# Altium footprint library Fedor's_pcb.PcbLib: 174 footprints (part 6 of 14)
Each footprint in its own frame and in the unit in brackets; x right, y up, seen from the top. Pads: shape width x height; smd on the part's side, far side on the other; paste and mask are expansions set on the pad; w line width, h text height; cw(c..) or ccw(c..) is an arc to the next point about the centre after c.
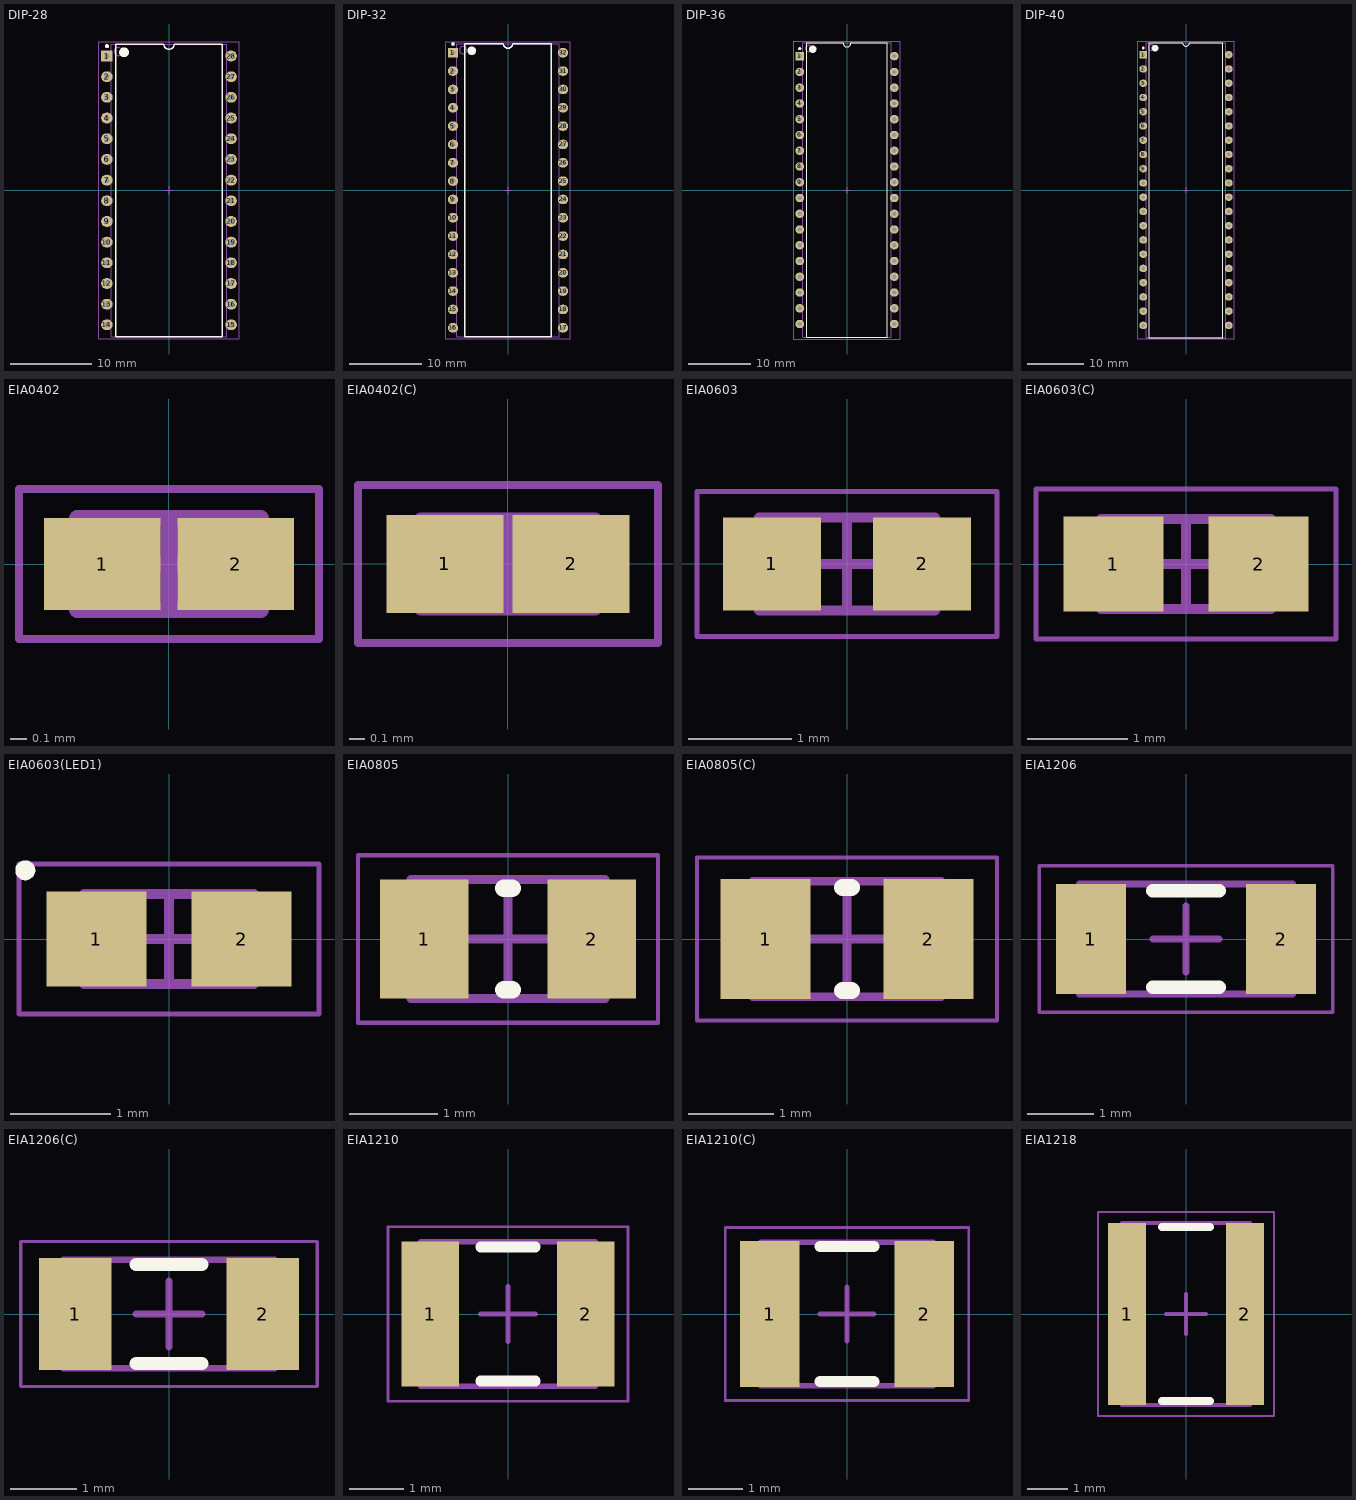
[diagram p5: the footprints below, top view; thin cyan lines are the x and y axes]

## DIP-28 [mm] "28-pin plastic DIP (DIP-28P-M02)"
height 4.96
pads (28):
  rect 1.42x1.32 hole 0.66: 1(-7.62,16.51)
  oval 1.42x1.32 hole 0.66: 2(-7.62,13.97) 3(-7.62,11.43) 4(-7.62,8.89) 5(-7.62,6.35) 6(-7.62,3.81) 7(-7.62,1.27) 8(-7.62,-1.27) 9(-7.62,-3.81) 10(-7.62,-6.35) 11(-7.62,-8.89) 12(-7.62,-11.43) 13(-7.62,-13.97) 14(-7.62,-16.51) 15(7.62,-16.51) 16(7.62,-13.97) 17(7.62,-11.43) 18(7.62,-8.89) 19(7.62,-6.35) 20(7.62,-3.81) 21(7.62,-1.27) 22(7.62,1.27) 23(7.62,3.81) 24(7.62,6.35) 25(7.62,8.89) 26(7.62,11.43) 27(7.62,13.97) 28(7.62,16.51)
Top Overlay:
  circle w0.25: c-7.62,17.72 r0.125
  circle w0.6: c-5.525,16.965 r0.3
  lines w0.2: -6.525,-17.965 -6.525,17.965 -0.635,17.965 ccw(c0,17.965) 0.635,17.965 6.525,17.965 6.525,-17.965 -6.525,-17.965
Mechanical 13:
  circle w0.1: c-6.22,17.065 r0.5
  lines w0.1: -7.12,-17.965 -7.12,17.965 7.12,17.965 7.12,-17.965 -7.12,-17.965
Mechanical 15:
  lines w0.05: -8.6,-18.25 -8.6,18.25 8.6,18.25 8.6,-18.25 -8.6,-18.25
  lines w0.1: -0.5,0 0.5,0 ; 0,-0.5 0,0.5
3D body: height 2.64, standoff 0, extent -7.719,16.13 -7.521,16.89
3D body: height 2.84, standoff 2.64, extent -7.719,16.13 -7.12,16.89
3D body: height 0, standoff -1.6, extent -7.719,16.246 -7.521,16.774
3D body: height 2.64, standoff 0, extent -7.719,13.59 -7.521,14.35
3D body: height 2.84, standoff 2.64, extent -7.719,13.59 -7.12,14.35
3D body: height 0, standoff -1.6, extent -7.719,13.706 -7.521,14.234
3D body: height 2.64, standoff 0, extent -7.719,11.05 -7.521,11.81
3D body: height 2.84, standoff 2.64, extent -7.719,11.05 -7.12,11.81
3D body: height 0, standoff -1.6, extent -7.719,11.166 -7.521,11.694
3D body: height 2.64, standoff 0, extent -7.719,8.51 -7.521,9.27
3D body: height 2.84, standoff 2.64, extent -7.719,8.51 -7.12,9.27
3D body: height 0, standoff -1.6, extent -7.719,8.626 -7.521,9.154
3D body: height 2.64, standoff 0, extent -7.719,5.97 -7.521,6.73
3D body: height 2.84, standoff 2.64, extent -7.719,5.97 -7.12,6.73
3D body: height 0, standoff -1.6, extent -7.719,6.086 -7.521,6.614
3D body: height 2.64, standoff 0, extent -7.719,3.43 -7.521,4.19
3D body: height 2.84, standoff 2.64, extent -7.719,3.43 -7.12,4.19
3D body: height 0, standoff -1.6, extent -7.719,3.546 -7.521,4.074
3D body: height 2.64, standoff 0, extent -7.719,0.89 -7.521,1.65
3D body: height 2.84, standoff 2.64, extent -7.719,0.89 -7.12,1.65
3D body: height 0, standoff -1.6, extent -7.719,1.006 -7.521,1.534
3D body: height 2.64, standoff 0, extent -7.719,-1.65 -7.521,-0.89
3D body: height 2.84, standoff 2.64, extent -7.719,-1.65 -7.12,-0.89
3D body: height 0, standoff -1.6, extent -7.719,-1.534 -7.521,-1.006
3D body: height 2.64, standoff 0, extent -7.719,-4.19 -7.521,-3.43
3D body: height 2.84, standoff 2.64, extent -7.719,-4.19 -7.12,-3.43
3D body: height 0, standoff -1.6, extent -7.719,-4.074 -7.521,-3.546
3D body: height 2.64, standoff 0, extent -7.719,-6.73 -7.521,-5.97
3D body: height 2.84, standoff 2.64, extent -7.719,-6.73 -7.12,-5.97
3D body: height 0, standoff -1.6, extent -7.719,-6.614 -7.521,-6.086
3D body: height 2.64, standoff 0, extent -7.719,-9.27 -7.521,-8.51
3D body: height 2.84, standoff 2.64, extent -7.719,-9.27 -7.12,-8.51
3D body: height 0, standoff -1.6, extent -7.719,-9.154 -7.521,-8.626
3D body: height 2.64, standoff 0, extent -7.719,-11.81 -7.521,-11.05
3D body: height 2.84, standoff 2.64, extent -7.719,-11.81 -7.12,-11.05
3D body: height 0, standoff -1.6, extent -7.719,-11.694 -7.521,-11.166
3D body: height 2.64, standoff 0, extent -7.719,-14.35 -7.521,-13.59
3D body: height 2.84, standoff 2.64, extent -7.719,-14.35 -7.12,-13.59
3D body: height 0, standoff -1.6, extent -7.719,-14.234 -7.521,-13.706
3D body: height 2.64, standoff 0, extent -7.719,-16.89 -7.521,-16.13
3D body: height 2.84, standoff 2.64, extent -7.719,-16.89 -7.12,-16.13
3D body: height 0, standoff -1.6, extent -7.719,-16.774 -7.521,-16.246
3D body: height 2.64, standoff 0, extent 7.521,-16.89 7.719,-16.13
3D body: height 2.84, standoff 2.64, extent 7.12,-16.89 7.719,-16.13
3D body: height 0, standoff -1.6, extent 7.521,-16.774 7.719,-16.246
3D body: height 2.64, standoff 0, extent 7.521,-14.35 7.719,-13.59
3D body: height 2.84, standoff 2.64, extent 7.12,-14.35 7.719,-13.59
3D body: height 0, standoff -1.6, extent 7.521,-14.234 7.719,-13.706
3D body: height 2.64, standoff 0, extent 7.521,-11.81 7.719,-11.05
3D body: height 2.84, standoff 2.64, extent 7.12,-11.81 7.719,-11.05
3D body: height 0, standoff -1.6, extent 7.521,-11.694 7.719,-11.166
3D body: height 2.64, standoff 0, extent 7.521,-9.27 7.719,-8.51
3D body: height 2.84, standoff 2.64, extent 7.12,-9.27 7.719,-8.51
3D body: height 0, standoff -1.6, extent 7.521,-9.154 7.719,-8.626
3D body: height 2.64, standoff 0, extent 7.521,-6.73 7.719,-5.97
3D body: height 2.84, standoff 2.64, extent 7.12,-6.73 7.719,-5.97
3D body: height 0, standoff -1.6, extent 7.521,-6.614 7.719,-6.086
3D body: height 2.64, standoff 0, extent 7.521,-4.19 7.719,-3.43
3D body: height 2.84, standoff 2.64, extent 7.12,-4.19 7.719,-3.43
3D body: height 0, standoff -1.6, extent 7.521,-4.074 7.719,-3.546
3D body: height 2.64, standoff 0, extent 7.521,-1.65 7.719,-0.89
3D body: height 2.84, standoff 2.64, extent 7.12,-1.65 7.719,-0.89
3D body: height 0, standoff -1.6, extent 7.521,-1.534 7.719,-1.006
3D body: height 2.64, standoff 0, extent 7.521,0.89 7.719,1.65
3D body: height 2.84, standoff 2.64, extent 7.12,0.89 7.719,1.65
3D body: height 0, standoff -1.6, extent 7.521,1.006 7.719,1.534
3D body: height 2.64, standoff 0, extent 7.521,3.43 7.719,4.19
3D body: height 2.84, standoff 2.64, extent 7.12,3.43 7.719,4.19
3D body: height 0, standoff -1.6, extent 7.521,3.546 7.719,4.074
3D body: height 2.64, standoff 0, extent 7.521,5.97 7.719,6.73
3D body: height 2.84, standoff 2.64, extent 7.12,5.97 7.719,6.73
3D body: height 0, standoff -1.6, extent 7.521,6.086 7.719,6.614
3D body: height 2.64, standoff 0, extent 7.521,8.51 7.719,9.27
3D body: height 2.84, standoff 2.64, extent 7.12,8.51 7.719,9.27
3D body: height 0, standoff -1.6, extent 7.521,8.626 7.719,9.154
3D body: height 2.64, standoff 0, extent 7.521,11.05 7.719,11.81
3D body: height 2.84, standoff 2.64, extent 7.12,11.05 7.719,11.81
3D body: height 0, standoff -1.6, extent 7.521,11.166 7.719,11.694
3D body: height 2.64, standoff 0, extent 7.521,13.59 7.719,14.35
3D body: height 2.84, standoff 2.64, extent 7.12,13.59 7.719,14.35
3D body: height 0, standoff -1.6, extent 7.521,13.706 7.719,14.234
3D body: height 2.64, standoff 0, extent 7.521,16.13 7.719,16.89
3D body: height 2.84, standoff 2.64, extent 7.12,16.13 7.719,16.89
3D body: height 0, standoff -1.6, extent 7.521,16.246 7.719,16.774
3D body: height 4.96, standoff 0.51, extent -7.12,-17.965 7.12,17.965

## DIP-32 [mm] "32-pin plastic DIP (DIP-32P-M02)"
height 5
pads (32):
  rect 1.42x1.32 hole 0.66: 1(-7.62,19.05)
  oval 1.42x1.32 hole 0.66: 2(-7.62,16.51) 3(-7.62,13.97) 4(-7.62,11.43) 5(-7.62,8.89) 6(-7.62,6.35) 7(-7.62,3.81) 8(-7.62,1.27) 9(-7.62,-1.27) 10(-7.62,-3.81) 11(-7.62,-6.35) 12(-7.62,-8.89) 13(-7.62,-11.43) 14(-7.62,-13.97) 15(-7.62,-16.51) 16(-7.62,-19.05) 17(7.62,-19.05) 18(7.62,-16.51) 19(7.62,-13.97) 20(7.62,-11.43) 21(7.62,-8.89) 22(7.62,-6.35) 23(7.62,-3.81) 24(7.62,-1.27) 25(7.62,1.27) 26(7.62,3.81) 27(7.62,6.35) 28(7.62,8.89) 29(7.62,11.43) 30(7.62,13.97) 31(7.62,16.51) 32(7.62,19.05)
Top Overlay:
  circle w0.25: c-7.62,20.26 r0.125
  circle w0.6: c-5.025,19.32 r0.3
  lines w0.2: -6.025,-20.32 -6.025,20.32 -0.635,20.32 ccw(c0,20.32) 0.635,20.32 6.025,20.32 6.025,-20.32 -6.025,-20.32
Mechanical 13:
  circle w0.1: c-6.22,19.42 r0.5
  lines w0.1: -7.12,-20.32 -7.12,20.32 7.12,20.32 7.12,-20.32 -7.12,-20.32
Mechanical 15:
  lines w0.05: -8.6,-20.6 -8.6,20.6 8.6,20.6 8.6,-20.6 -8.6,-20.6
  lines w0.1: -0.5,0 0.5,0 ; 0,-0.5 0,0.5
3D body: height 2.66, standoff 0, extent -7.719,18.67 -7.521,19.43
3D body: height 2.86, standoff 2.66, extent -7.719,18.67 -7.12,19.43
3D body: height 0, standoff -1.6, extent -7.719,18.786 -7.521,19.314
3D body: height 2.66, standoff 0, extent -7.719,16.13 -7.521,16.89
3D body: height 2.86, standoff 2.66, extent -7.719,16.13 -7.12,16.89
3D body: height 0, standoff -1.6, extent -7.719,16.246 -7.521,16.774
3D body: height 2.66, standoff 0, extent -7.719,13.59 -7.521,14.35
3D body: height 2.86, standoff 2.66, extent -7.719,13.59 -7.12,14.35
3D body: height 0, standoff -1.6, extent -7.719,13.706 -7.521,14.234
3D body: height 2.66, standoff 0, extent -7.719,11.05 -7.521,11.81
3D body: height 2.86, standoff 2.66, extent -7.719,11.05 -7.12,11.81
3D body: height 0, standoff -1.6, extent -7.719,11.166 -7.521,11.694
3D body: height 2.66, standoff 0, extent -7.719,8.51 -7.521,9.27
3D body: height 2.86, standoff 2.66, extent -7.719,8.51 -7.12,9.27
3D body: height 0, standoff -1.6, extent -7.719,8.626 -7.521,9.154
3D body: height 2.66, standoff 0, extent -7.719,5.97 -7.521,6.73
3D body: height 2.86, standoff 2.66, extent -7.719,5.97 -7.12,6.73
3D body: height 0, standoff -1.6, extent -7.719,6.086 -7.521,6.614
3D body: height 2.66, standoff 0, extent -7.719,3.43 -7.521,4.19
3D body: height 2.86, standoff 2.66, extent -7.719,3.43 -7.12,4.19
3D body: height 0, standoff -1.6, extent -7.719,3.546 -7.521,4.074
3D body: height 2.66, standoff 0, extent -7.719,0.89 -7.521,1.65
3D body: height 2.86, standoff 2.66, extent -7.719,0.89 -7.12,1.65
3D body: height 0, standoff -1.6, extent -7.719,1.006 -7.521,1.534
3D body: height 2.66, standoff 0, extent -7.719,-1.65 -7.521,-0.89
3D body: height 2.86, standoff 2.66, extent -7.719,-1.65 -7.12,-0.89
3D body: height 0, standoff -1.6, extent -7.719,-1.534 -7.521,-1.006
3D body: height 2.66, standoff 0, extent -7.719,-4.19 -7.521,-3.43
3D body: height 2.86, standoff 2.66, extent -7.719,-4.19 -7.12,-3.43
3D body: height 0, standoff -1.6, extent -7.719,-4.074 -7.521,-3.546
3D body: height 2.66, standoff 0, extent -7.719,-6.73 -7.521,-5.97
3D body: height 2.86, standoff 2.66, extent -7.719,-6.73 -7.12,-5.97
3D body: height 0, standoff -1.6, extent -7.719,-6.614 -7.521,-6.086
3D body: height 2.66, standoff 0, extent -7.719,-9.27 -7.521,-8.51
3D body: height 2.86, standoff 2.66, extent -7.719,-9.27 -7.12,-8.51
3D body: height 0, standoff -1.6, extent -7.719,-9.154 -7.521,-8.626
3D body: height 2.66, standoff 0, extent -7.719,-11.81 -7.521,-11.05
3D body: height 2.86, standoff 2.66, extent -7.719,-11.81 -7.12,-11.05
3D body: height 0, standoff -1.6, extent -7.719,-11.694 -7.521,-11.166
3D body: height 2.66, standoff 0, extent -7.719,-14.35 -7.521,-13.59
3D body: height 2.86, standoff 2.66, extent -7.719,-14.35 -7.12,-13.59
3D body: height 0, standoff -1.6, extent -7.719,-14.234 -7.521,-13.706
3D body: height 2.66, standoff 0, extent -7.719,-16.89 -7.521,-16.13
3D body: height 2.86, standoff 2.66, extent -7.719,-16.89 -7.12,-16.13
3D body: height 0, standoff -1.6, extent -7.719,-16.774 -7.521,-16.246
3D body: height 2.66, standoff 0, extent -7.719,-19.43 -7.521,-18.67
3D body: height 2.86, standoff 2.66, extent -7.719,-19.43 -7.12,-18.67
3D body: height 0, standoff -1.6, extent -7.719,-19.314 -7.521,-18.786
3D body: height 2.66, standoff 0, extent 7.521,-19.43 7.719,-18.67
3D body: height 2.86, standoff 2.66, extent 7.12,-19.43 7.719,-18.67
3D body: height 0, standoff -1.6, extent 7.521,-19.314 7.719,-18.786
3D body: height 2.66, standoff 0, extent 7.521,-16.89 7.719,-16.13
3D body: height 2.86, standoff 2.66, extent 7.12,-16.89 7.719,-16.13
3D body: height 0, standoff -1.6, extent 7.521,-16.774 7.719,-16.246
3D body: height 2.66, standoff 0, extent 7.521,-14.35 7.719,-13.59
3D body: height 2.86, standoff 2.66, extent 7.12,-14.35 7.719,-13.59
3D body: height 0, standoff -1.6, extent 7.521,-14.234 7.719,-13.706
3D body: height 2.66, standoff 0, extent 7.521,-11.81 7.719,-11.05
3D body: height 2.86, standoff 2.66, extent 7.12,-11.81 7.719,-11.05
3D body: height 0, standoff -1.6, extent 7.521,-11.694 7.719,-11.166
3D body: height 2.66, standoff 0, extent 7.521,-9.27 7.719,-8.51
3D body: height 2.86, standoff 2.66, extent 7.12,-9.27 7.719,-8.51
3D body: height 0, standoff -1.6, extent 7.521,-9.154 7.719,-8.626
3D body: height 2.66, standoff 0, extent 7.521,-6.73 7.719,-5.97
3D body: height 2.86, standoff 2.66, extent 7.12,-6.73 7.719,-5.97
3D body: height 0, standoff -1.6, extent 7.521,-6.614 7.719,-6.086
3D body: height 2.66, standoff 0, extent 7.521,-4.19 7.719,-3.43
3D body: height 2.86, standoff 2.66, extent 7.12,-4.19 7.719,-3.43
3D body: height 0, standoff -1.6, extent 7.521,-4.074 7.719,-3.546
3D body: height 2.66, standoff 0, extent 7.521,-1.65 7.719,-0.89
3D body: height 2.86, standoff 2.66, extent 7.12,-1.65 7.719,-0.89
3D body: height 0, standoff -1.6, extent 7.521,-1.534 7.719,-1.006
3D body: height 2.66, standoff 0, extent 7.521,0.89 7.719,1.65
3D body: height 2.86, standoff 2.66, extent 7.12,0.89 7.719,1.65
3D body: height 0, standoff -1.6, extent 7.521,1.006 7.719,1.534
3D body: height 2.66, standoff 0, extent 7.521,3.43 7.719,4.19
3D body: height 2.86, standoff 2.66, extent 7.12,3.43 7.719,4.19
3D body: height 0, standoff -1.6, extent 7.521,3.546 7.719,4.074
3D body: height 2.66, standoff 0, extent 7.521,5.97 7.719,6.73
3D body: height 2.86, standoff 2.66, extent 7.12,5.97 7.719,6.73
3D body: height 0, standoff -1.6, extent 7.521,6.086 7.719,6.614
3D body: height 2.66, standoff 0, extent 7.521,8.51 7.719,9.27
3D body: height 2.86, standoff 2.66, extent 7.12,8.51 7.719,9.27
3D body: height 0, standoff -1.6, extent 7.521,8.626 7.719,9.154
3D body: height 2.66, standoff 0, extent 7.521,11.05 7.719,11.81
3D body: height 2.86, standoff 2.66, extent 7.12,11.05 7.719,11.81
3D body: height 0, standoff -1.6, extent 7.521,11.166 7.719,11.694
3D body: height 2.66, standoff 0, extent 7.521,13.59 7.719,14.35
3D body: height 2.86, standoff 2.66, extent 7.12,13.59 7.719,14.35
3D body: height 0, standoff -1.6, extent 7.521,13.706 7.719,14.234
3D body: height 2.66, standoff 0, extent 7.521,16.13 7.719,16.89
3D body: height 2.86, standoff 2.66, extent 7.12,16.13 7.719,16.89
3D body: height 0, standoff -1.6, extent 7.521,16.246 7.719,16.774
3D body: height 2.66, standoff 0, extent 7.521,18.67 7.719,19.43
3D body: height 2.86, standoff 2.66, extent 7.12,18.67 7.719,19.43
3D body: height 0, standoff -1.6, extent 7.521,18.786 7.719,19.314
3D body: height 5, standoff 0.51, extent -7.12,-20.32 7.12,20.32

## DIP-36 [mm] "36-pin plastic DIP (DIP-36P-M02)"
height 5
pads (36):
  rect 1.42x1.32 hole 0.66: 1(-7.62,21.59)
  oval 1.42x1.32 hole 0.66: 2(-7.62,19.05) 3(-7.62,16.51) 4(-7.62,13.97) 5(-7.62,11.43) 6(-7.62,8.89) 7(-7.62,6.35) 8(-7.62,3.81) 9(-7.62,1.27) 10(-7.62,-1.27) 11(-7.62,-3.81) 12(-7.62,-6.35) 13(-7.62,-8.89) 14(-7.62,-11.43) 15(-7.62,-13.97) 16(-7.62,-16.51) 17(-7.62,-19.05) 18(-7.62,-21.59) 19(7.62,-21.59) 20(7.62,-19.05) 21(7.62,-16.51) 22(7.62,-13.97) 23(7.62,-11.43) 24(7.62,-8.89) 25(7.62,-6.35) 26(7.62,-3.81) 27(7.62,-1.27) 28(7.62,1.27) 29(7.62,3.81) 30(7.62,6.35) 31(7.62,8.89) 32(7.62,11.43) 33(7.62,13.97) 34(7.62,16.51) 35(7.62,19.05) 36(7.62,21.59)
Top Overlay:
  circle w0.25: c-7.62,22.8 r0.125
  circle w0.6: c-5.525,22.725 r0.3
  lines w0.2: -6.525,-23.725 -6.525,23.725 -0.635,23.725 ccw(c0,23.725) 0.635,23.725 6.525,23.725 6.525,-23.725 -6.525,-23.725
Mechanical 13:
  circle w0.1: c-6.22,22.825 r0.5
  lines w0.1: -7.12,-23.725 -7.12,23.725 7.12,23.725 7.12,-23.725 -7.12,-23.725
Mechanical 15:
  lines w0.05: -8.6,-24 -8.6,24 8.6,24 8.6,-24 -8.6,-24
  lines w0.1: -0.5,0 0.5,0 ; 0,-0.5 0,0.5
3D body: height 2.66, standoff 0, extent -7.719,21.21 -7.521,21.97
3D body: height 2.86, standoff 2.66, extent -7.719,21.21 -7.12,21.97
3D body: height 0, standoff -1.6, extent -7.719,21.326 -7.521,21.854
3D body: height 2.66, standoff 0, extent -7.719,18.67 -7.521,19.43
3D body: height 2.86, standoff 2.66, extent -7.719,18.67 -7.12,19.43
3D body: height 0, standoff -1.6, extent -7.719,18.786 -7.521,19.314
3D body: height 2.66, standoff 0, extent -7.719,16.13 -7.521,16.89
3D body: height 2.86, standoff 2.66, extent -7.719,16.13 -7.12,16.89
3D body: height 0, standoff -1.6, extent -7.719,16.246 -7.521,16.774
3D body: height 2.66, standoff 0, extent -7.719,13.59 -7.521,14.35
3D body: height 2.86, standoff 2.66, extent -7.719,13.59 -7.12,14.35
3D body: height 0, standoff -1.6, extent -7.719,13.706 -7.521,14.234
3D body: height 2.66, standoff 0, extent -7.719,11.05 -7.521,11.81
3D body: height 2.86, standoff 2.66, extent -7.719,11.05 -7.12,11.81
3D body: height 0, standoff -1.6, extent -7.719,11.166 -7.521,11.694
3D body: height 2.66, standoff 0, extent -7.719,8.51 -7.521,9.27
3D body: height 2.86, standoff 2.66, extent -7.719,8.51 -7.12,9.27
3D body: height 0, standoff -1.6, extent -7.719,8.626 -7.521,9.154
3D body: height 2.66, standoff 0, extent -7.719,5.97 -7.521,6.73
3D body: height 2.86, standoff 2.66, extent -7.719,5.97 -7.12,6.73
3D body: height 0, standoff -1.6, extent -7.719,6.086 -7.521,6.614
3D body: height 2.66, standoff 0, extent -7.719,3.43 -7.521,4.19
3D body: height 2.86, standoff 2.66, extent -7.719,3.43 -7.12,4.19
3D body: height 0, standoff -1.6, extent -7.719,3.546 -7.521,4.074
3D body: height 2.66, standoff 0, extent -7.719,0.89 -7.521,1.65
3D body: height 2.86, standoff 2.66, extent -7.719,0.89 -7.12,1.65
3D body: height 0, standoff -1.6, extent -7.719,1.006 -7.521,1.534
3D body: height 2.66, standoff 0, extent -7.719,-1.65 -7.521,-0.89
3D body: height 2.86, standoff 2.66, extent -7.719,-1.65 -7.12,-0.89
3D body: height 0, standoff -1.6, extent -7.719,-1.534 -7.521,-1.006
3D body: height 2.66, standoff 0, extent -7.719,-4.19 -7.521,-3.43
3D body: height 2.86, standoff 2.66, extent -7.719,-4.19 -7.12,-3.43
3D body: height 0, standoff -1.6, extent -7.719,-4.074 -7.521,-3.546
3D body: height 2.66, standoff 0, extent -7.719,-6.73 -7.521,-5.97
3D body: height 2.86, standoff 2.66, extent -7.719,-6.73 -7.12,-5.97
3D body: height 0, standoff -1.6, extent -7.719,-6.614 -7.521,-6.086
3D body: height 2.66, standoff 0, extent -7.719,-9.27 -7.521,-8.51
3D body: height 2.86, standoff 2.66, extent -7.719,-9.27 -7.12,-8.51
3D body: height 0, standoff -1.6, extent -7.719,-9.154 -7.521,-8.626
3D body: height 2.66, standoff 0, extent -7.719,-11.81 -7.521,-11.05
3D body: height 2.86, standoff 2.66, extent -7.719,-11.81 -7.12,-11.05
3D body: height 0, standoff -1.6, extent -7.719,-11.694 -7.521,-11.166
3D body: height 2.66, standoff 0, extent -7.719,-14.35 -7.521,-13.59
3D body: height 2.86, standoff 2.66, extent -7.719,-14.35 -7.12,-13.59
3D body: height 0, standoff -1.6, extent -7.719,-14.234 -7.521,-13.706
3D body: height 2.66, standoff 0, extent -7.719,-16.89 -7.521,-16.13
3D body: height 2.86, standoff 2.66, extent -7.719,-16.89 -7.12,-16.13
3D body: height 0, standoff -1.6, extent -7.719,-16.774 -7.521,-16.246
3D body: height 2.66, standoff 0, extent -7.719,-19.43 -7.521,-18.67
3D body: height 2.86, standoff 2.66, extent -7.719,-19.43 -7.12,-18.67
3D body: height 0, standoff -1.6, extent -7.719,-19.314 -7.521,-18.786
3D body: height 2.66, standoff 0, extent -7.719,-21.97 -7.521,-21.21
3D body: height 2.86, standoff 2.66, extent -7.719,-21.97 -7.12,-21.21
3D body: height 0, standoff -1.6, extent -7.719,-21.854 -7.521,-21.326
3D body: height 2.66, standoff 0, extent 7.521,-21.97 7.719,-21.21
3D body: height 2.86, standoff 2.66, extent 7.12,-21.97 7.719,-21.21
3D body: height 0, standoff -1.6, extent 7.521,-21.854 7.719,-21.326
3D body: height 2.66, standoff 0, extent 7.521,-19.43 7.719,-18.67
3D body: height 2.86, standoff 2.66, extent 7.12,-19.43 7.719,-18.67
3D body: height 0, standoff -1.6, extent 7.521,-19.314 7.719,-18.786
3D body: height 2.66, standoff 0, extent 7.521,-16.89 7.719,-16.13
3D body: height 2.86, standoff 2.66, extent 7.12,-16.89 7.719,-16.13
3D body: height 0, standoff -1.6, extent 7.521,-16.774 7.719,-16.246
3D body: height 2.66, standoff 0, extent 7.521,-14.35 7.719,-13.59
3D body: height 2.86, standoff 2.66, extent 7.12,-14.35 7.719,-13.59
3D body: height 0, standoff -1.6, extent 7.521,-14.234 7.719,-13.706
3D body: height 2.66, standoff 0, extent 7.521,-11.81 7.719,-11.05
3D body: height 2.86, standoff 2.66, extent 7.12,-11.81 7.719,-11.05
3D body: height 0, standoff -1.6, extent 7.521,-11.694 7.719,-11.166
3D body: height 2.66, standoff 0, extent 7.521,-9.27 7.719,-8.51
3D body: height 2.86, standoff 2.66, extent 7.12,-9.27 7.719,-8.51
3D body: height 0, standoff -1.6, extent 7.521,-9.154 7.719,-8.626
3D body: height 2.66, standoff 0, extent 7.521,-6.73 7.719,-5.97
3D body: height 2.86, standoff 2.66, extent 7.12,-6.73 7.719,-5.97
3D body: height 0, standoff -1.6, extent 7.521,-6.614 7.719,-6.086
3D body: height 2.66, standoff 0, extent 7.521,-4.19 7.719,-3.43
3D body: height 2.86, standoff 2.66, extent 7.12,-4.19 7.719,-3.43
3D body: height 0, standoff -1.6, extent 7.521,-4.074 7.719,-3.546
3D body: height 2.66, standoff 0, extent 7.521,-1.65 7.719,-0.89
3D body: height 2.86, standoff 2.66, extent 7.12,-1.65 7.719,-0.89
3D body: height 0, standoff -1.6, extent 7.521,-1.534 7.719,-1.006
3D body: height 2.66, standoff 0, extent 7.521,0.89 7.719,1.65
3D body: height 2.86, standoff 2.66, extent 7.12,0.89 7.719,1.65
3D body: height 0, standoff -1.6, extent 7.521,1.006 7.719,1.534
3D body: height 2.66, standoff 0, extent 7.521,3.43 7.719,4.19
3D body: height 2.86, standoff 2.66, extent 7.12,3.43 7.719,4.19
3D body: height 0, standoff -1.6, extent 7.521,3.546 7.719,4.074
3D body: height 2.66, standoff 0, extent 7.521,5.97 7.719,6.73
3D body: height 2.86, standoff 2.66, extent 7.12,5.97 7.719,6.73
3D body: height 0, standoff -1.6, extent 7.521,6.086 7.719,6.614
3D body: height 2.66, standoff 0, extent 7.521,8.51 7.719,9.27
3D body: height 2.86, standoff 2.66, extent 7.12,8.51 7.719,9.27
3D body: height 0, standoff -1.6, extent 7.521,8.626 7.719,9.154
3D body: height 2.66, standoff 0, extent 7.521,11.05 7.719,11.81
3D body: height 2.86, standoff 2.66, extent 7.12,11.05 7.719,11.81
3D body: height 0, standoff -1.6, extent 7.521,11.166 7.719,11.694
3D body: height 2.66, standoff 0, extent 7.521,13.59 7.719,14.35
3D body: height 2.86, standoff 2.66, extent 7.12,13.59 7.719,14.35
3D body: height 0, standoff -1.6, extent 7.521,13.706 7.719,14.234
3D body: height 2.66, standoff 0, extent 7.521,16.13 7.719,16.89
3D body: height 2.86, standoff 2.66, extent 7.12,16.13 7.719,16.89
3D body: height 0, standoff -1.6, extent 7.521,16.246 7.719,16.774
3D body: height 2.66, standoff 0, extent 7.521,18.67 7.719,19.43
3D body: height 2.86, standoff 2.66, extent 7.12,18.67 7.719,19.43
3D body: height 0, standoff -1.6, extent 7.521,18.786 7.719,19.314
3D body: height 2.66, standoff 0, extent 7.521,21.21 7.719,21.97
3D body: height 2.86, standoff 2.66, extent 7.12,21.21 7.719,21.97
3D body: height 0, standoff -1.6, extent 7.521,21.326 7.719,21.854
3D body: height 5, standoff 0.51, extent -7.12,-23.725 7.12,23.725

## DIP-40 [mm] "40-pin plastic DIP (DIP-40P-M02)"
height 4.96
pads (40):
  rect 1.42x1.32 hole 0.66: 1(-7.62,24.13)
  oval 1.42x1.32 hole 0.66: 2(-7.62,21.59) 3(-7.62,19.05) 4(-7.62,16.51) 5(-7.62,13.97) 6(-7.62,11.43) 7(-7.62,8.89) 8(-7.62,6.35) 9(-7.62,3.81) 10(-7.62,1.27) 11(-7.62,-1.27) 12(-7.62,-3.81) 13(-7.62,-6.35) 14(-7.62,-8.89) 15(-7.62,-11.43) 16(-7.62,-13.97) 17(-7.62,-16.51) 18(-7.62,-19.05) 19(-7.62,-21.59) 20(-7.62,-24.13) 21(7.62,-24.13) 22(7.62,-21.59) 23(7.62,-19.05) 24(7.62,-16.51) 25(7.62,-13.97) 26(7.62,-11.43) 27(7.62,-8.89) 28(7.62,-6.35) 29(7.62,-3.81) 30(7.62,-1.27) 31(7.62,1.27) 32(7.62,3.81) 33(7.62,6.35) 34(7.62,8.89) 35(7.62,11.43) 36(7.62,13.97) 37(7.62,16.51) 38(7.62,19.05) 39(7.62,21.59) 40(7.62,24.13)
Top Overlay:
  circle w0.6: c-5.525,25.3 r0.3
  circle w0.25: c-7.62,25.34 r0.125
  lines w0.2: -6.525,-26.3 6.525,-26.3 6.525,26.3 0.635,26.3 cw(c0,26.3) -0.635,26.3 -6.525,26.3 -6.525,-26.3
Mechanical 13:
  circle w0.1: c-6.22,25.4 r0.5
  lines w0.1: -7.12,-26.3 7.12,-26.3 7.12,26.3 -7.12,26.3 -7.12,-26.3
Mechanical 15:
  lines w0.05: -8.6,-26.55 8.6,-26.55 8.6,26.55 -8.6,26.55 -8.6,-26.55
  lines w0.1: -0.5,0 0.5,0 ; 0,-0.5 0,0.5
3D body: height 4.96, standoff 0.51, extent -7.12,-26.3 7.12,26.3
3D body: height 0, standoff -1.6, extent 7.521,23.866 7.719,24.394
3D body: height 2.84, standoff 2.64, extent 7.12,23.75 7.719,24.51
3D body: height 2.64, standoff 0, extent 7.521,23.75 7.719,24.51
3D body: height 0, standoff -1.6, extent 7.521,21.326 7.719,21.854
3D body: height 2.84, standoff 2.64, extent 7.12,21.21 7.719,21.97
3D body: height 2.64, standoff 0, extent 7.521,21.21 7.719,21.97
3D body: height 0, standoff -1.6, extent 7.521,18.786 7.719,19.314
3D body: height 2.84, standoff 2.64, extent 7.12,18.67 7.719,19.43
3D body: height 2.64, standoff 0, extent 7.521,18.67 7.719,19.43
3D body: height 0, standoff -1.6, extent 7.521,16.246 7.719,16.774
3D body: height 2.84, standoff 2.64, extent 7.12,16.13 7.719,16.89
3D body: height 2.64, standoff 0, extent 7.521,16.13 7.719,16.89
3D body: height 0, standoff -1.6, extent 7.521,13.706 7.719,14.234
3D body: height 2.84, standoff 2.64, extent 7.12,13.59 7.719,14.35
3D body: height 2.64, standoff 0, extent 7.521,13.59 7.719,14.35
3D body: height 0, standoff -1.6, extent 7.521,11.166 7.719,11.694
3D body: height 2.84, standoff 2.64, extent 7.12,11.05 7.719,11.81
3D body: height 2.64, standoff 0, extent 7.521,11.05 7.719,11.81
3D body: height 0, standoff -1.6, extent 7.521,8.626 7.719,9.154
3D body: height 2.84, standoff 2.64, extent 7.12,8.51 7.719,9.27
3D body: height 2.64, standoff 0, extent 7.521,8.51 7.719,9.27
3D body: height 0, standoff -1.6, extent 7.521,6.086 7.719,6.614
3D body: height 2.84, standoff 2.64, extent 7.12,5.97 7.719,6.73
3D body: height 2.64, standoff 0, extent 7.521,5.97 7.719,6.73
3D body: height 0, standoff -1.6, extent 7.521,3.546 7.719,4.074
3D body: height 2.84, standoff 2.64, extent 7.12,3.43 7.719,4.19
3D body: height 2.64, standoff 0, extent 7.521,3.43 7.719,4.19
3D body: height 0, standoff -1.6, extent 7.521,1.006 7.719,1.534
3D body: height 2.84, standoff 2.64, extent 7.12,0.89 7.719,1.65
3D body: height 2.64, standoff 0, extent 7.521,0.89 7.719,1.65
3D body: height 0, standoff -1.6, extent 7.521,-1.534 7.719,-1.006
3D body: height 2.84, standoff 2.64, extent 7.12,-1.65 7.719,-0.89
3D body: height 2.64, standoff 0, extent 7.521,-1.65 7.719,-0.89
3D body: height 0, standoff -1.6, extent 7.521,-4.074 7.719,-3.546
3D body: height 2.84, standoff 2.64, extent 7.12,-4.19 7.719,-3.43
3D body: height 2.64, standoff 0, extent 7.521,-4.19 7.719,-3.43
3D body: height 0, standoff -1.6, extent 7.521,-6.614 7.719,-6.086
3D body: height 2.84, standoff 2.64, extent 7.12,-6.73 7.719,-5.97
3D body: height 2.64, standoff 0, extent 7.521,-6.73 7.719,-5.97
3D body: height 0, standoff -1.6, extent 7.521,-9.154 7.719,-8.626
3D body: height 2.84, standoff 2.64, extent 7.12,-9.27 7.719,-8.51
3D body: height 2.64, standoff 0, extent 7.521,-9.27 7.719,-8.51
3D body: height 0, standoff -1.6, extent 7.521,-11.694 7.719,-11.166
3D body: height 2.84, standoff 2.64, extent 7.12,-11.81 7.719,-11.05
3D body: height 2.64, standoff 0, extent 7.521,-11.81 7.719,-11.05
3D body: height 0, standoff -1.6, extent 7.521,-14.234 7.719,-13.706
3D body: height 2.84, standoff 2.64, extent 7.12,-14.35 7.719,-13.59
3D body: height 2.64, standoff 0, extent 7.521,-14.35 7.719,-13.59
3D body: height 0, standoff -1.6, extent 7.521,-16.774 7.719,-16.246
3D body: height 2.84, standoff 2.64, extent 7.12,-16.89 7.719,-16.13
3D body: height 2.64, standoff 0, extent 7.521,-16.89 7.719,-16.13
3D body: height 0, standoff -1.6, extent 7.521,-19.314 7.719,-18.786
3D body: height 2.84, standoff 2.64, extent 7.12,-19.43 7.719,-18.67
3D body: height 2.64, standoff 0, extent 7.521,-19.43 7.719,-18.67
3D body: height 0, standoff -1.6, extent 7.521,-21.854 7.719,-21.326
3D body: height 2.84, standoff 2.64, extent 7.12,-21.97 7.719,-21.21
3D body: height 2.64, standoff 0, extent 7.521,-21.97 7.719,-21.21
3D body: height 0, standoff -1.6, extent 7.521,-24.394 7.719,-23.866
3D body: height 2.84, standoff 2.64, extent 7.12,-24.51 7.719,-23.75
3D body: height 2.64, standoff 0, extent 7.521,-24.51 7.719,-23.75
3D body: height 0, standoff -1.6, extent -7.719,-24.394 -7.521,-23.866
3D body: height 2.84, standoff 2.64, extent -7.719,-24.51 -7.12,-23.75
3D body: height 2.64, standoff 0, extent -7.719,-24.51 -7.521,-23.75
3D body: height 0, standoff -1.6, extent -7.719,-21.854 -7.521,-21.326
3D body: height 2.84, standoff 2.64, extent -7.719,-21.97 -7.12,-21.21
3D body: height 2.64, standoff 0, extent -7.719,-21.97 -7.521,-21.21
3D body: height 0, standoff -1.6, extent -7.719,-19.314 -7.521,-18.786
3D body: height 2.84, standoff 2.64, extent -7.719,-19.43 -7.12,-18.67
3D body: height 2.64, standoff 0, extent -7.719,-19.43 -7.521,-18.67
3D body: height 0, standoff -1.6, extent -7.719,-16.774 -7.521,-16.246
3D body: height 2.84, standoff 2.64, extent -7.719,-16.89 -7.12,-16.13
3D body: height 2.64, standoff 0, extent -7.719,-16.89 -7.521,-16.13
3D body: height 0, standoff -1.6, extent -7.719,-14.234 -7.521,-13.706
3D body: height 2.84, standoff 2.64, extent -7.719,-14.35 -7.12,-13.59
3D body: height 2.64, standoff 0, extent -7.719,-14.35 -7.521,-13.59
3D body: height 0, standoff -1.6, extent -7.719,-11.694 -7.521,-11.166
3D body: height 2.84, standoff 2.64, extent -7.719,-11.81 -7.12,-11.05
3D body: height 2.64, standoff 0, extent -7.719,-11.81 -7.521,-11.05
3D body: height 0, standoff -1.6, extent -7.719,-9.154 -7.521,-8.626
3D body: height 2.84, standoff 2.64, extent -7.719,-9.27 -7.12,-8.51
3D body: height 2.64, standoff 0, extent -7.719,-9.27 -7.521,-8.51
3D body: height 0, standoff -1.6, extent -7.719,-6.614 -7.521,-6.086
3D body: height 2.84, standoff 2.64, extent -7.719,-6.73 -7.12,-5.97
3D body: height 2.64, standoff 0, extent -7.719,-6.73 -7.521,-5.97
3D body: height 0, standoff -1.6, extent -7.719,-4.074 -7.521,-3.546
3D body: height 2.84, standoff 2.64, extent -7.719,-4.19 -7.12,-3.43
3D body: height 2.64, standoff 0, extent -7.719,-4.19 -7.521,-3.43
3D body: height 0, standoff -1.6, extent -7.719,-1.534 -7.521,-1.006
3D body: height 2.84, standoff 2.64, extent -7.719,-1.65 -7.12,-0.89
3D body: height 2.64, standoff 0, extent -7.719,-1.65 -7.521,-0.89
3D body: height 0, standoff -1.6, extent -7.719,1.006 -7.521,1.534
3D body: height 2.84, standoff 2.64, extent -7.719,0.89 -7.12,1.65
3D body: height 2.64, standoff 0, extent -7.719,0.89 -7.521,1.65
3D body: height 0, standoff -1.6, extent -7.719,3.546 -7.521,4.074
3D body: height 2.84, standoff 2.64, extent -7.719,3.43 -7.12,4.19
3D body: height 2.64, standoff 0, extent -7.719,3.43 -7.521,4.19
3D body: height 0, standoff -1.6, extent -7.719,6.086 -7.521,6.614
3D body: height 2.84, standoff 2.64, extent -7.719,5.97 -7.12,6.73
3D body: height 2.64, standoff 0, extent -7.719,5.97 -7.521,6.73
3D body: height 0, standoff -1.6, extent -7.719,8.626 -7.521,9.154
3D body: height 2.84, standoff 2.64, extent -7.719,8.51 -7.12,9.27
3D body: height 2.64, standoff 0, extent -7.719,8.51 -7.521,9.27
3D body: height 0, standoff -1.6, extent -7.719,11.166 -7.521,11.694
3D body: height 2.84, standoff 2.64, extent -7.719,11.05 -7.12,11.81
3D body: height 2.64, standoff 0, extent -7.719,11.05 -7.521,11.81
3D body: height 0, standoff -1.6, extent -7.719,13.706 -7.521,14.234
3D body: height 2.84, standoff 2.64, extent -7.719,13.59 -7.12,14.35
3D body: height 2.64, standoff 0, extent -7.719,13.59 -7.521,14.35
3D body: height 0, standoff -1.6, extent -7.719,16.246 -7.521,16.774
3D body: height 2.84, standoff 2.64, extent -7.719,16.13 -7.12,16.89
3D body: height 2.64, standoff 0, extent -7.719,16.13 -7.521,16.89
3D body: height 0, standoff -1.6, extent -7.719,18.786 -7.521,19.314
3D body: height 2.84, standoff 2.64, extent -7.719,18.67 -7.12,19.43
3D body: height 2.64, standoff 0, extent -7.719,18.67 -7.521,19.43
3D body: height 0, standoff -1.6, extent -7.719,21.326 -7.521,21.854
3D body: height 2.84, standoff 2.64, extent -7.719,21.21 -7.12,21.97
3D body: height 2.64, standoff 0, extent -7.719,21.21 -7.521,21.97
3D body: height 0, standoff -1.6, extent -7.719,23.866 -7.521,24.394
3D body: height 2.84, standoff 2.64, extent -7.719,23.75 -7.12,24.51
3D body: height 2.64, standoff 0, extent -7.719,23.75 -7.521,24.51

## EIA0402 [mm] "1/16W 25-50V"
height 0.25
pads (2):
  rect 0.7x0.55 smd: 1(-0.4,0) 2(0.4,0)
Mechanical 13:
  lines w0.1: -0.55,-0.275 0.55,-0.275 0.55,0.275 -0.55,0.275 -0.55,-0.275
Mechanical 15:
  lines w0.05: -0.9,-0.45 0.9,-0.45 0.9,0.45 -0.9,0.45 -0.9,-0.45
  lines w0.1: -0.275,0 0.275,0 ; 0,-0.275 0,0.275
3D body "RESC1005X02N.step": height 0.25, standoff 0, extent -0.55,-0.275 0.55,0.275

## EIA0402(C) [mm] "1/16W 25-50V"
height 0.25
pads (2):
  rect 0.74x0.62 smd: 1(-0.4,0) 2(0.4,0)
Mechanical 13:
  lines w0.1: -0.55,-0.275 -0.55,0.275 0.55,0.275 0.55,-0.275 -0.55,-0.275
Mechanical 15:
  lines w0.05: -0.95,-0.5 -0.95,0.5 0.95,0.5 0.95,-0.5 -0.95,-0.5
  lines w0.1: -0.275,0 0.275,0 ; 0,-0.275 0,0.275
3D body "CAPC1005X02N.step": height 0.25, standoff 0, extent -0.55,-0.275 0.55,0.275

## EIA0603 [mm] "1/10W 50-100V"
height 0.35
pads (2):
  rect 0.95x0.9 smd: 1(-0.725,0) 2(0.725,0)
Mechanical 13:
  lines w0.1: -0.85,-0.45 -0.85,0.45 0.85,0.45 0.85,-0.45 -0.85,-0.45
Mechanical 15:
  lines w0.05: -1.45,-0.7 -1.45,0.7 1.45,0.7 1.45,-0.7 -1.45,-0.7
  lines w0.1: -0.45,0 0.45,0 ; 0,-0.45 0,0.45
3D body "RESC1608X04N.step": height 0.35, standoff 0, extent -0.85,-0.45 0.85,0.45

## EIA0603(C) [mm] "1/10W 50-100V"
height 0.35
pads (2):
  rect 1x0.95 smd: 1(-0.725,0) 2(0.725,0)
Mechanical 13:
  lines w0.1: -0.85,-0.45 -0.85,0.45 0.85,0.45 0.85,-0.45 -0.85,-0.45
Mechanical 15:
  lines w0.05: -1.5,-0.75 -1.5,0.75 1.5,0.75 1.5,-0.75 -1.5,-0.75
  lines w0.1: -0.45,0 0.45,0 ; 0,-0.45 0,0.45
3D body "CAPC1608X04N.step": height 0.35, standoff 0, extent -0.85,-0.45 0.85,0.45

## EIA0603(LED1) [mm] "Surface Mount Device LED - TO-1608BC-BF"
height 0.35
pads (2):
  rect 1x0.95 smd: 1(-0.725,0) 2(0.725,0)
Top Overlay:
  circle w0.1: c-1.437,0.687 r0.05
Mechanical 13:
  lines w0.1: -0.85,-0.45 -0.85,0.45 0.85,0.45 0.85,-0.45 -0.85,-0.45
Mechanical 15:
  lines w0.05: -1.5,-0.75 -1.5,0.75 1.5,0.75 1.5,-0.75 -1.5,-0.75
  lines w0.1: -0.45,0 0.45,0 ; 0,-0.45 0,0.45
3D body "DIOC1608X04N.step": height 0.35, standoff 0, extent -0.85,-0.45 0.85,0.45

## EIA0805 [mm] "1/8W 150-300V"
height 0.45
pads (2):
  rect 1x1.35 smd: 1(-0.95,0) 2(0.95,0)
Top Overlay:
  lines w0.2: -0.05,-0.575 0.05,-0.575 ; -0.05,0.575 0.05,0.575
Mechanical 13:
  lines w0.1: -1.1,-0.675 1.1,-0.675 1.1,0.675 -1.1,0.675 -1.1,-0.675
Mechanical 15:
  lines w0.05: -1.7,-0.95 1.7,-0.95 1.7,0.95 -1.7,0.95 -1.7,-0.95
  lines w0.1: -0.5,0 0.5,0 ; 0,-0.5 0,0.5
3D body "RESC2113X04N.step": height 0.45, standoff 0, extent -1.1,-0.675 1.1,0.675

## EIA0805(C) [mm] "1/8W 150-300V"
height 0.45
pads (2):
  rect 1.05x1.4 smd: 1(-0.95,0) 2(0.95,0)
Top Overlay:
  lines w0.2: -0.05,-0.6 0.05,-0.6 ; -0.05,0.6 0.05,0.6
Mechanical 13:
  lines w0.1: -1.1,-0.675 1.1,-0.675 1.1,0.675 -1.1,0.675 -1.1,-0.675
Mechanical 15:
  lines w0.05: -1.75,-0.95 1.75,-0.95 1.75,0.95 -1.75,0.95 -1.75,-0.95
  lines w0.1: -0.5,0 0.5,0 ; 0,-0.5 0,0.5
3D body "CAPC2113X04N.step": height 0.45, standoff 0, extent -1.1,-0.675 1.1,0.675

## EIA1206 [mm] "1/4W 200-400V"
height 0.55
pads (2):
  rect 1.05x1.65 smd: 1(-1.425,0) 2(1.425,0)
Top Overlay:
  lines w0.2: -0.5,-0.725 0.5,-0.725 ; -0.5,0.725 0.5,0.725
Mechanical 13:
  lines w0.1: -1.6,-0.825 1.6,-0.825 1.6,0.825 -1.6,0.825 -1.6,-0.825
Mechanical 15:
  lines w0.05: -2.2,-1.1 2.2,-1.1 2.2,1.1 -2.2,1.1 -2.2,-1.1
  lines w0.1: -0.5,0 0.5,0 ; 0,-0.5 0,0.5
3D body "RESC3116X06N.step": height 0.55, standoff 0, extent -1.6,-0.825 1.6,0.825

## EIA1206(C) [mm] "1/4W 200-400V"
height 0.55
pads (2):
  rect 1.1x1.7 smd: 1(-1.425,0) 2(1.425,0)
Top Overlay:
  lines w0.2: -0.5,-0.75 0.5,-0.75 ; -0.5,0.75 0.5,0.75
Mechanical 13:
  lines w0.1: -1.6,-0.825 -1.6,0.825 1.6,0.825 1.6,-0.825 -1.6,-0.825
Mechanical 15:
  lines w0.05: -2.25,-1.1 -2.25,1.1 2.25,1.1 2.25,-1.1 -2.25,-1.1
  lines w0.1: -0.5,0 0.5,0 ; 0,-0.5 0,0.5
3D body "CAPC3116X06N.step": height 0.55, standoff 0, extent -1.6,-0.825 1.6,0.825

## EIA1210 [mm] "1/3W 200-400V"
height 0.55
pads (2):
  rect 1.05x2.65 smd: 1(-1.425,0) 2(1.425,0)
Top Overlay:
  lines w0.2: -0.5,-1.225 0.5,-1.225 ; -0.5,1.225 0.5,1.225
Mechanical 13:
  lines w0.1: -1.6,-1.325 1.6,-1.325 1.6,1.325 -1.6,1.325 -1.6,-1.325
Mechanical 15:
  lines w0.05: -2.2,-1.6 2.2,-1.6 2.2,1.6 -2.2,1.6 -2.2,-1.6
  lines w0.1: -0.5,0 0.5,0 ; 0,-0.5 0,0.5
3D body "RESC3126X06N.step": height 0.55, standoff 0, extent -1.6,-1.325 1.6,1.325

## EIA1210(C) [mm] "1/3W 200-400V"
height 0.55
pads (2):
  rect 1.1x2.7 smd: 1(-1.425,0) 2(1.425,0)
Top Overlay:
  lines w0.2: -0.5,-1.25 0.5,-1.25 ; -0.5,1.25 0.5,1.25
Mechanical 13:
  lines w0.1: -1.6,-1.325 -1.6,1.325 1.6,1.325 1.6,-1.325 -1.6,-1.325
Mechanical 15:
  lines w0.05: -2.25,-1.6 -2.25,1.6 2.25,1.6 2.25,-1.6 -2.25,-1.6
  lines w0.1: -0.5,0 0.5,0 ; 0,-0.5 0,0.5
3D body "CAPC3126X06N.step": height 0.55, standoff 0, extent -1.6,-1.325 1.6,1.325

## EIA1218 [mm] "Chip Resistor, 2-Leads, Body 3,15x4,50mm, IPC Medium Density"
height 1.9
pads (2):
  rect 0.95x4.55 smd: 1(-1.475,0) 2(1.475,0)
Top Overlay:
  lines w0.2: -0.6,-2.175 0.6,-2.175 ; -0.6,2.175 0.6,2.175
Mechanical 13:
  lines w0.1: -1.6,-2.275 -1.6,2.275 1.6,2.275 1.6,-2.275 -1.6,-2.275
Mechanical 15:
  lines w0.05: -2.2,-2.55 -2.2,2.55 2.2,2.55 2.2,-2.55 -2.2,-2.55
  lines w0.1: -0.5,0 0.5,0 ; 0,-0.5 0,0.5
3D body "RESC3245X19N.step": height 1.9, standoff 0, extent -1.6,-2.275 1.6,2.275